# Altium footprint library Synthiam-new.PcbLib: 262 footprints (part 4 of 17)
Each footprint in its own frame and in the unit in brackets; x right, y up, seen from the top. Pads: shape width x height; smd on the part's side, far side on the other; paste and mask are expansions set on the pad; w line width, h text height; cw(c..) or ccw(c..) is an arc to the next point about the centre after c.
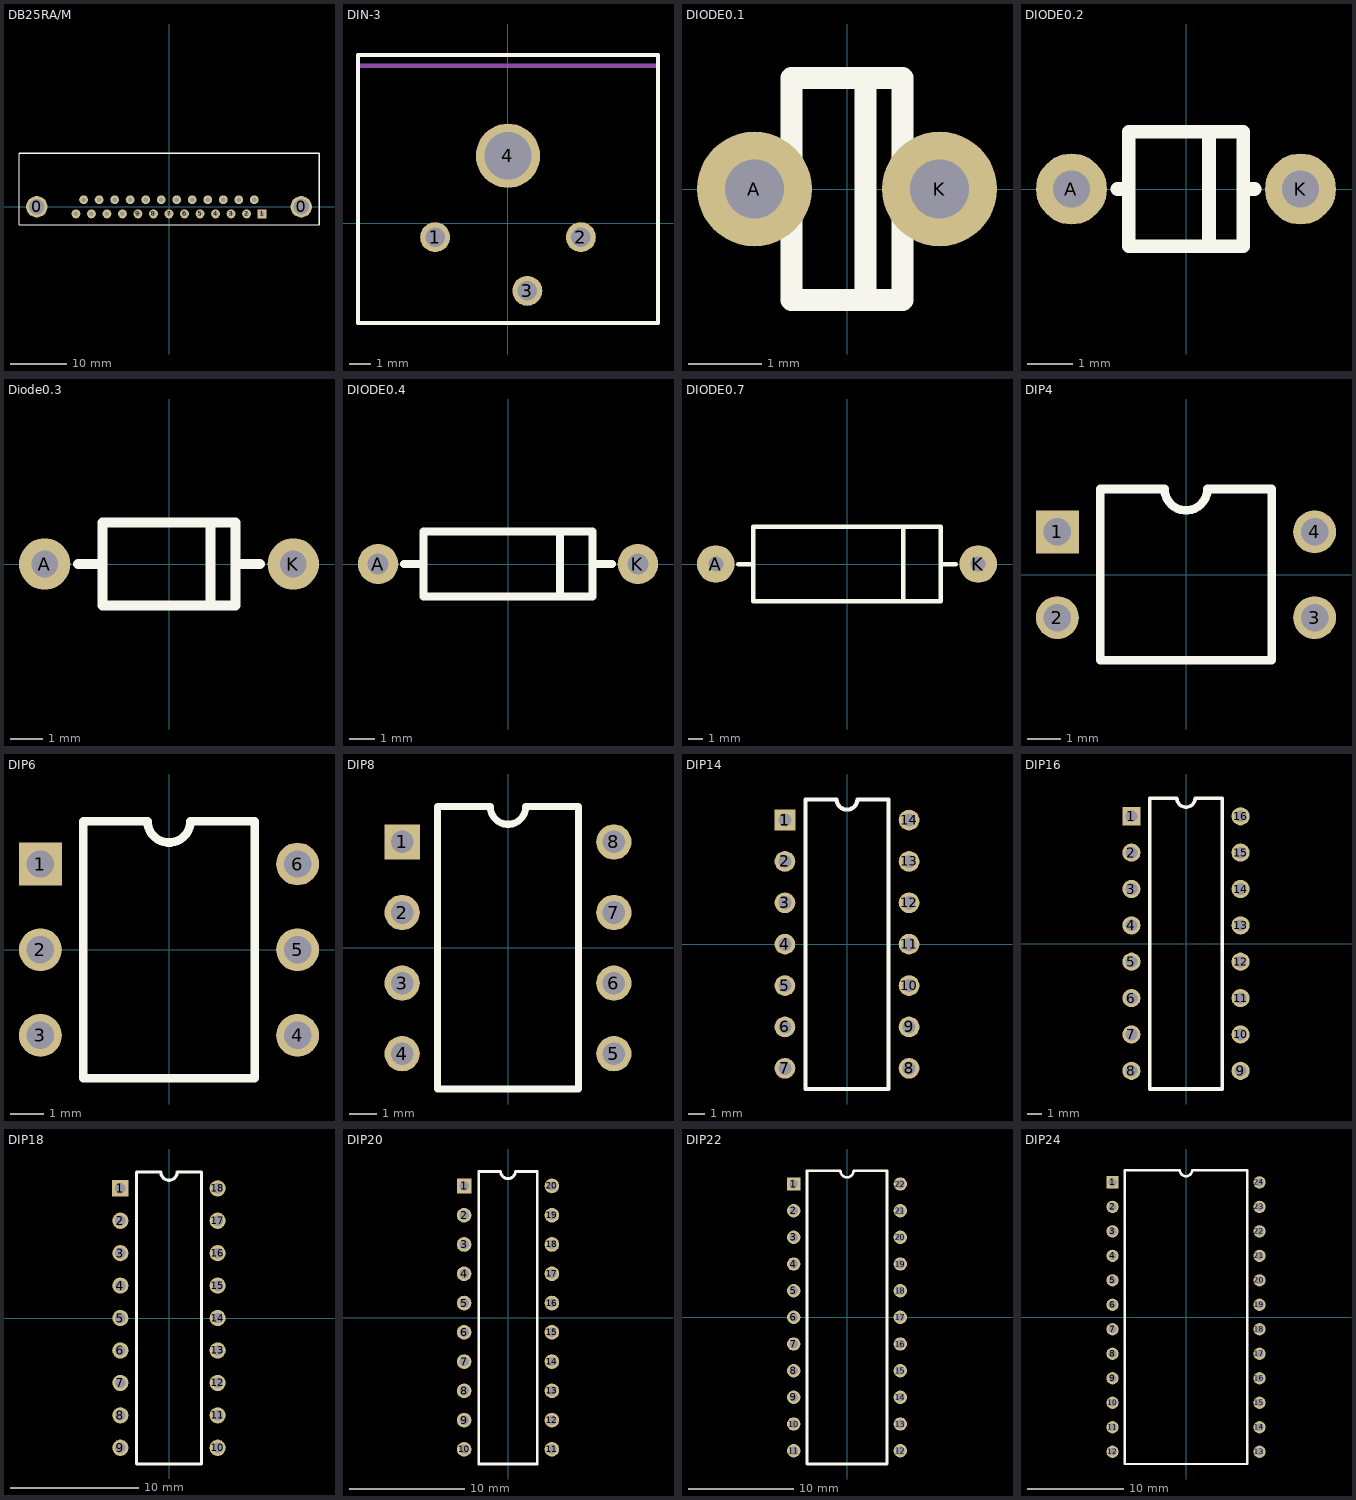
[diagram p3: the footprints below, top view; thin cyan lines are the x and y axes]

## DB25RA/M [mil]
pads (27):
  round 150 hole 110: 0(-929,0) 0(929,0)
  rect 62x62 hole 32: 1(654,-50)
  round 62 hole 32: 2(545,-50) 3(436,-50) 4(327,-50) 5(218,-50) 6(109,-50) 7(0,-50) 8(-109,-50) 9(-218,-50) 10(-327,-50) 11(-436,-50) 12(-545,-50) 13(-654,-50) 14(599,50) 15(490,50) 16(381,50) 17(272,50) 18(163,50) 19(54,50) 20(-55,50) 21(-164,50) 22(-273,50) 23(-382,50) 24(-491,50) 25(-600,50)
Top Overlay:
  lines w8: -1054,375 -1054,-125 1054,-125
  lines w10: -1054,375 1054,375 1054,-125

## DIN-3 [mm]
pads (4):
  round 1.4 hole 0.9: 1(-3.4,-0.65) 2(3.4,-0.65) 3(0.9,-3.15)
  round 3 hole 2.2: 4(0,3.15)
Top Overlay:
  lines w0.203: -7,-4.65 7,-4.65 7,7.85 -7,7.85 -7,-4.65
Mechanical 1:
  lines w0.203: -7,7.35 7,7.35

## DIODE0.1 [mil]
pads (2):
  round 62 hole 32: A(-50,0) K(50,0)
Top Overlay:
  lines w12: 10,-60 10,60 ; -30,-60 30,-60 30,60 -30,60 -30,-60

## DIODE0.2 [mil]
pads (2):
  round 62 hole 32: A(-100,0) K(100,0)
Top Overlay:
  lines w12: -60,0 -50,0 ; 20,-50 20,50 ; 50,0 60,0 ; -50,-50 -50,50 50,50 50,-50 -50,-50

## Diode0.3 [mil]
pads (2):
  round 62 hole 32: A(-150,0) K(150,0)
Top Overlay:
  lines w12: -110,0 -80,0 ; 50,-50 50,50 ; 80,0 110,0 ; -80,-50 80,-50 80,50 -80,50 -80,-50

## DIODE0.4 [mil]
pads (2):
  round 62 hole 32: A(-200,0) K(200,0)
Top Overlay:
  lines w12: -160,0 -130,0 ; 80,-50 80,50 ; 130,0 160,0 ; -130,-50 -130,50 130,50 130,-50 -130,-50

## DIODE0.7 [mil]
pads (2):
  round 100 hole 40: A(-350,0) K(350,0)
Top Overlay:
  lines w12: -290,0 -250,0 ; 150,-100 150,100 ; 250,0 290,0 ; -250,-100 250,-100 250,100 -250,100 -250,-100

## DIP4 [mil]
pads (4):
  rect 50x50 hole 32: 1(-150,50)
  round 50 hole 32: 2(-150,-50) 3(150,-50) 4(150,50)
Top Overlay:
  lines w10: -100,-100 -100,100 -25,100 ccw(c0,100) 25,100 100,100 100,-100 -100,-100

## DIP6 [mil]
pads (6):
  rect 50x50 hole 32: 1(-150,100)
  round 50 hole 32: 2(-150,0) 3(-150,-100) 4(150,-100) 5(150,0) 6(150,100)
Top Overlay:
  lines w10: -100,-150 -100,150 -25,150 ccw(c0,150) 25,150 100,150 100,-150 -100,-150

## DIP8 [mil]
pads (8):
  rect 50x50 hole 32: 1(-150,150)
  round 50 hole 32: 2(-150,50) 3(-150,-50) 4(-150,-150) 5(150,-150) 6(150,-50) 7(150,50) 8(150,150)
Top Overlay:
  lines w10: -100,-200 100,-200 100,200 25,200 cw(c0,200) -25,200 -100,200 -100,-200

## DIP14 [mil]
pads (14):
  rect 50x50 hole 32: 1(-150,300)
  round 50 hole 32: 2(-150,200) 3(-150,100) 4(-150,0) 5(-150,-100) 6(-150,-200) 7(-150,-300) 8(150,-300) 9(150,-200) 10(150,-100) 11(150,0) 12(150,100) 13(150,200) 14(150,300)
Top Overlay:
  lines w10: -100,-350 100,-350 100,350 25,350 cw(c0,350) -25,350 -100,350 -100,-350

## DIP16 [mil]
pads (16):
  rect 50x50 hole 32: 1(-150,350)
  round 50 hole 32: 2(-150,250) 3(-150,150) 4(-150,50) 5(-150,-50) 6(-150,-150) 7(-150,-250) 8(-150,-350) 9(150,-350) 10(150,-250) 11(150,-150) 12(150,-50) 13(150,50) 14(150,150) 15(150,250) 16(150,350)
Top Overlay:
  lines w10: -100,-400 100,-400 100,400 25,400 cw(c0,400) -25,400 -100,400 -100,-400

## DIP18 [mil]
pads (18):
  rect 50x50 hole 32: 1(-150,400)
  round 50 hole 32: 2(-150,300) 3(-150,200) 4(-150,100) 5(-150,0) 6(-150,-100) 7(-150,-200) 8(-150,-300) 9(-150,-400) 10(150,-400) 11(150,-300) 12(150,-200) 13(150,-100) 14(150,0) 15(150,100) 16(150,200) 17(150,300) 18(150,400)
Top Overlay:
  lines w10: -100,-450 100,-450 100,450 25,450 cw(c0,450) -25,450 -100,450 -100,-450

## DIP20 [mil]
pads (20):
  rect 50x50 hole 32: 1(-150,450)
  round 50 hole 32: 2(-150,350) 3(-150,250) 4(-150,150) 5(-150,50) 6(-150,-50) 7(-150,-150) 8(-150,-250) 9(-150,-350) 10(-150,-450) 11(150,-450) 12(150,-350) 13(150,-250) 14(150,-150) 15(150,-50) 16(150,50) 17(150,150) 18(150,250) 19(150,350) 20(150,450)
Top Overlay:
  lines w10: -100,-500 100,-500 100,500 25,500 cw(c0,500) -25,500 -100,500 -100,-500

## DIP22 [mil]
pads (22):
  rect 50x50 hole 32: 1(-200,500)
  round 50 hole 32: 2(-200,400) 3(-200,300) 4(-200,200) 5(-200,100) 6(-200,0) 7(-200,-100) 8(-200,-200) 9(-200,-300) 10(-200,-400) 11(-200,-500) 12(200,-500) 13(200,-400) 14(200,-300) 15(200,-200) 16(200,-100) 17(200,0) 18(200,100) 19(200,200) 20(200,300) 21(200,400) 22(200,500)
Top Overlay:
  lines w10: -150,-550 -150,550 -25,550 ccw(c0,550) 25,550 150,550 150,-550 -150,-550

## DIP24 [mil]
pads (24):
  rect 50x50 hole 32: 1(-300,550)
  round 50 hole 32: 2(-300,450) 3(-300,350) 4(-300,250) 5(-300,150) 6(-300,50) 7(-300,-50) 8(-300,-150) 9(-300,-250) 10(-300,-350) 11(-300,-450) 12(-300,-550) 13(300,-550) 14(300,-450) 15(300,-350) 16(300,-250) 17(300,-150) 18(300,-50) 19(300,50) 20(300,150) 21(300,250) 22(300,350) 23(300,450) 24(300,550)
Top Overlay:
  lines w10: -250,-600 250,-600 250,600 25,600 cw(c0,600) -25,600 -250,600 -250,-600